# EAGLE library part RJ45-8N4-B (library con-amphenol-rj45-ld)
RJ45 socket with integrated magnetics Naming: Amphenol LMJ1598824110DT39 TME RJ45-TRAFO Author: Petr Kalandra <mailto:kalandrap@gmail.com> Datasheet: http://zefiryn.tme.pl/dok/zlacza/rjtrafo.pdf
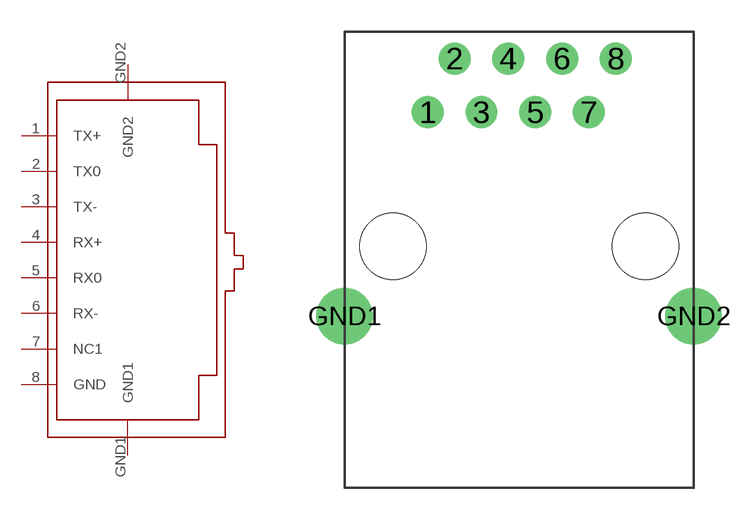
[diagram p1: symbol with the pads of RJ45-8N4-B; footprint RJ45-8N4-B]

Designator prefix -

## RJ45-8N4-B  [RJ45-8N4-B]
1  TX+
2  TX0
3  TX-
4  RX+
5  RX0
6  RX-
7  NC1  nc
8  GND  sup
GND1  GND1  sup
GND2  GND2  sup

## Footprint RJ45-8N4-B (pad centres in mm)
RJ45 without LED pins
drill 1: 1 -4.953,6.35; 2 -3.683,8.89; 3 -2.413,6.35; 4 -1.143,8.89; 5 0.127,6.35; 6 1.397,8.89; 7 2.667,6.35; 8 3.937,8.89
drill 1.786: GND1 -8.89,-3.302; GND2 7.62,-3.302
hole 3.149 at -6.604,0
hole 3.149 at 5.334,0